# Altium schematic symbol library SPM-05-X-B-RA-PF.SCHLIB: 1 symbol
Pins are listed as number, name and electrical type; pins without a type are passive.

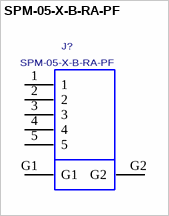
[diagram p0: symbol SPM-05-X-B-RA-PF]

## SPM-05-X-B-RA-PF
designator J?
SEALED PORT RIGHT ANGLE MINI USB.; MANUDACTURER: SAMTEC; CREATED: June 4, 2015 - Wendy Xin; PCB DECAL: SPM-05-X-B-RA-PF
footprint SPM-05-X-B-RA-PF
pins: 1, 2, 3, 4, 5, G1, G2